# EAGLE library part STM32F40 (library ST-MCU)
The STM32F405xx and STM32F407xx family is based on the high-performance ARM Cortex™-M4 32-bit RISC core operating at a frequency of up to 168 MHz. The Cortex-M4 core features a Floating point unit (FPU) single precision which supports all ARM singleprecision data-processing instructions and data types. It also implements a full set of DSP instructions and a memory protection unit (MPU) which enhances application security. The Cortex-M4 core with FPU will be referred to as Cortex-M4F throughout this document.
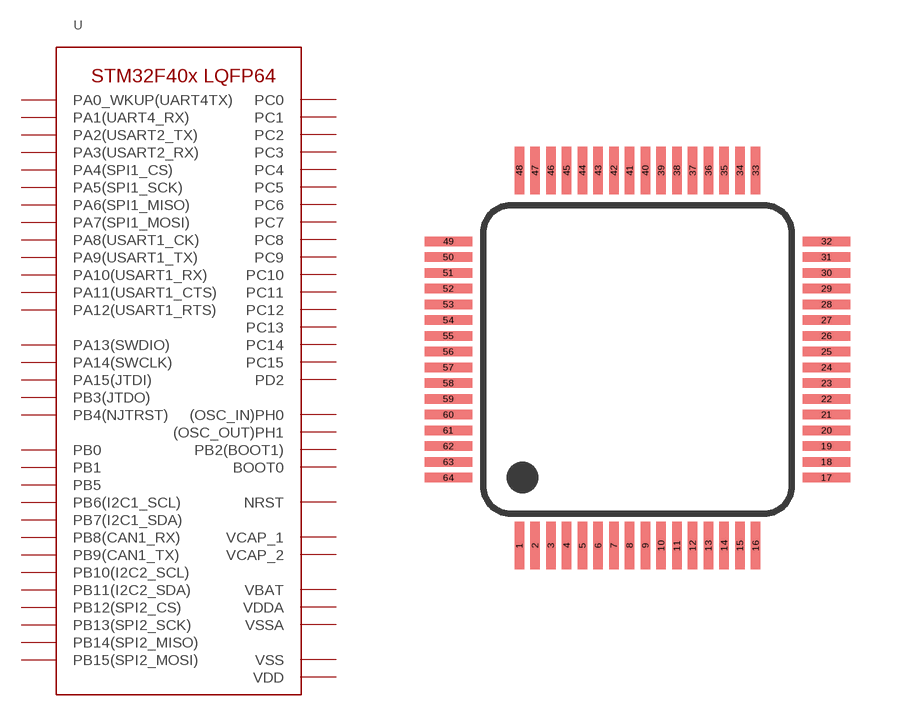
[diagram p0: symbol with the pads of LQFP64; footprint LQFP64]

Designator prefix U

## STM32F405RGT6  [LQFP64]
1  VBAT
2  PC13
3  PC14
4  PC15
5  (OSC_IN)PH0
6  (OSC_OUT)PH1
7  NRST
8  PC0
9  PC1
10  PC2
11  PC3
12  VSSA
13  VDDA
14  PA0_WKUP(UART4TX)
15  PA1(UART4_RX)
16  PA2(USART2_TX)
17  PA3(USART2_RX)
18  VSS
19  VDD
20  PA4(SPI1_CS)
21  PA5(SPI1_SCK)
22  PA6(SPI1_MISO)
23  PA7(SPI1_MOSI)
24  PC4
25  PC5
26  PB0
27  PB1
28  PB2(BOOT1)
29  PB10(I2C2_SCL)
30  PB11(I2C2_SDA)
31  VCAP_1
32  VDD
33  PB12(SPI2_CS)
34  PB13(SPI2_SCK)
35  PB14(SPI2_MISO)
36  PB15(SPI2_MOSI)
37  PC6
38  PC7
39  PC8
40  PC9
41  PA8(USART1_CK)
42  PA9(USART1_TX)
43  PA10(USART1_RX)
44  PA11(USART1_CTS)
45  PA12(USART1_RTS)
46  PA13(SWDIO)
47  VCAP_2
48  VDD
49  PA14(SWCLK)
50  PA15(JTDI)
51  PC10
52  PC11
53  PC12
54  PD2
55  PB3(JTDO)
56  PB4(NJTRST)
57  PB5
58  PB6(I2C1_SCL)
59  PB7(I2C1_SDA)
60  BOOT0
61  PB8(CAN1_RX)
62  PB9(CAN1_TX)
63  VSS
64  VDD

## Footprint LQFP64 (pad centres in mm)
smd 0.3 x 1.5: 1 0,0; 2 0.5,0; 3 1,0; 4 1.5,0; 5 2,0; 6 2.5,0; 7 3,0; 8 3.5,0; 9 4,0; 10 4.5,0; 11 5,0; 12 5.5,0; 13 6,0; 14 6.5,0; 15 7,0; 16 7.5,0; 33 7.5,11.9; 34 7,11.9; 35 6.5,11.9; 36 6,11.9; 37 5.5,11.9; 38 5,11.9; 39 4.5,11.9; 40 4,11.9; 41 3.5,11.9; 42 3,11.9; 43 2.5,11.9; 44 2,11.9; 45 1.5,11.9; 46 1,11.9; 47 0.5,11.9; 48 0,11.9
smd 1.5 x 0.3: 17 9.75,2.15; 18 9.75,2.65; 19 9.75,3.15; 20 9.75,3.65; 21 9.75,4.15; 22 9.75,4.65; 23 9.75,5.15; 24 9.75,5.65; 25 9.75,6.15; 26 9.75,6.65; 27 9.75,7.15; 28 9.75,7.65; 29 9.75,8.15; 30 9.75,8.65; 31 9.75,9.15; 32 9.75,9.65; 49 -2.25,9.65; 50 -2.25,9.15; 51 -2.25,8.65; 52 -2.25,8.15; 53 -2.25,7.65; 54 -2.25,7.15; 55 -2.25,6.65; 56 -2.25,6.15; 57 -2.25,5.65; 58 -2.25,5.15; 59 -2.25,4.65; 60 -2.25,4.15; 61 -2.25,3.65; 62 -2.25,3.15; 63 -2.25,2.65; 64 -2.25,2.15